# EAGLE library part DRV8833 (library zumo)
DRV8833 Dual H-Bridge Motor Driver -- HTSSOP Package
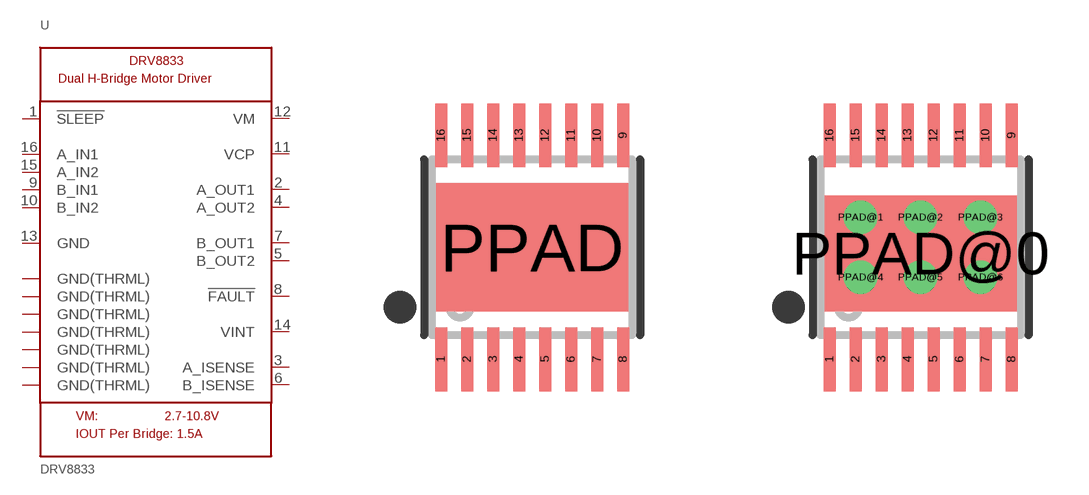
[diagram p4: symbol with the pads of HTSSOP16; footprints HTSSOP16, HTSSOP16_DRV8833]

Designator prefix U

## DRV8833NO_THERMALS  [HTSSOP16]
1  !SLEEP  in
2  A_OUT1  out
3  A_ISENSE
4  A_OUT2  out
5  B_OUT2  out
6  B_ISENSE
7  B_OUT1  out
8  !FAULT
9  B_IN1  in
10  B_IN2  in
11  VCP
12  VM
13  GND  pwr
14  VINT  pwr
15  A_IN2  in
16  A_IN1  in
PPAD  GND(THRML)

## DRV8833THERMAL_PAD  [HTSSOP16_DRV8833]
1  !SLEEP  in
2  A_OUT1  out
3  A_ISENSE
4  A_OUT2  out
5  B_OUT2  out
6  B_ISENSE
7  B_OUT1  out
8  !FAULT
9  B_IN1  in
10  B_IN2  in
11  VCP
12  VM
13  GND  pwr
14  VINT  pwr
15  A_IN2  in
16  A_IN1  in
PPAD@0  GND(THRML)
PPAD@1  GND(THRML)
PPAD@2  GND(THRML)
PPAD@3  GND(THRML)
PPAD@4  GND(THRML)
PPAD@5  GND(THRML)
PPAD@6  GND(THRML)

## Footprint HTSSOP16 (pad centres in mm)
HTSSOP 16 (5x4.4mm 0.65mm Pitch) Source: http://www.ti.com/lit/ds/slvsar1b/slvsar1b.pdf
smd 0.3 x 1.6: 1 -2.275,-2.8; 2 -1.625,-2.8; 3 -0.975,-2.8; 4 -0.325,-2.8; 5 0.325,-2.8; 6 0.975,-2.8; 7 1.625,-2.8; 8 2.275,-2.8; 9 2.275,2.8; 10 1.625,2.8; 11 0.975,2.8; 12 0.325,2.8; 13 -0.325,2.8; 14 -0.975,2.8; 15 -1.625,2.8; 16 -2.275,2.8
smd 4.8 x 3.2: PPAD 0,0

## Footprint HTSSOP16_DRV8833 (pad centres in mm)
HTSSOP 16 (5x4.4mm 0.65mm Pitch) Source: http://www.ti.com/lit/ds/slvsar1b/slvsar1b.pdf
smd 0.3 x 1.6: 1 -2.275,-2.8; 2 -1.625,-2.8; 3 -0.975,-2.8; 4 -0.325,-2.8; 5 0.325,-2.8; 6 0.975,-2.8; 7 1.625,-2.8; 8 2.275,-2.8; 9 2.275,2.8; 10 1.625,2.8; 11 0.975,2.8; 12 0.325,2.8; 13 -0.325,2.8; 14 -0.975,2.8; 15 -1.625,2.8; 16 -2.275,2.8
smd 4.8 x 2.9: PPAD@0 0,-0.15
drill 0.33: PPAD@1 -1.5,0.75; PPAD@2 0,0.75; PPAD@3 1.5,0.75; PPAD@4 -1.5,-0.75; PPAD@5 0,-0.75; PPAD@6 1.5,-0.75